# Altium footprint library adafruit.PCBLIB: 643 footprints (part 9 of 41)
Each footprint in its own frame and in the unit in brackets; x right, y up, seen from the top. Pads: shape width x height; smd on the part's side, far side on the other; paste and mask are expansions set on the pad; w line width, h text height; cw(c..) or ccw(c..) is an arc to the next point about the centre after c.
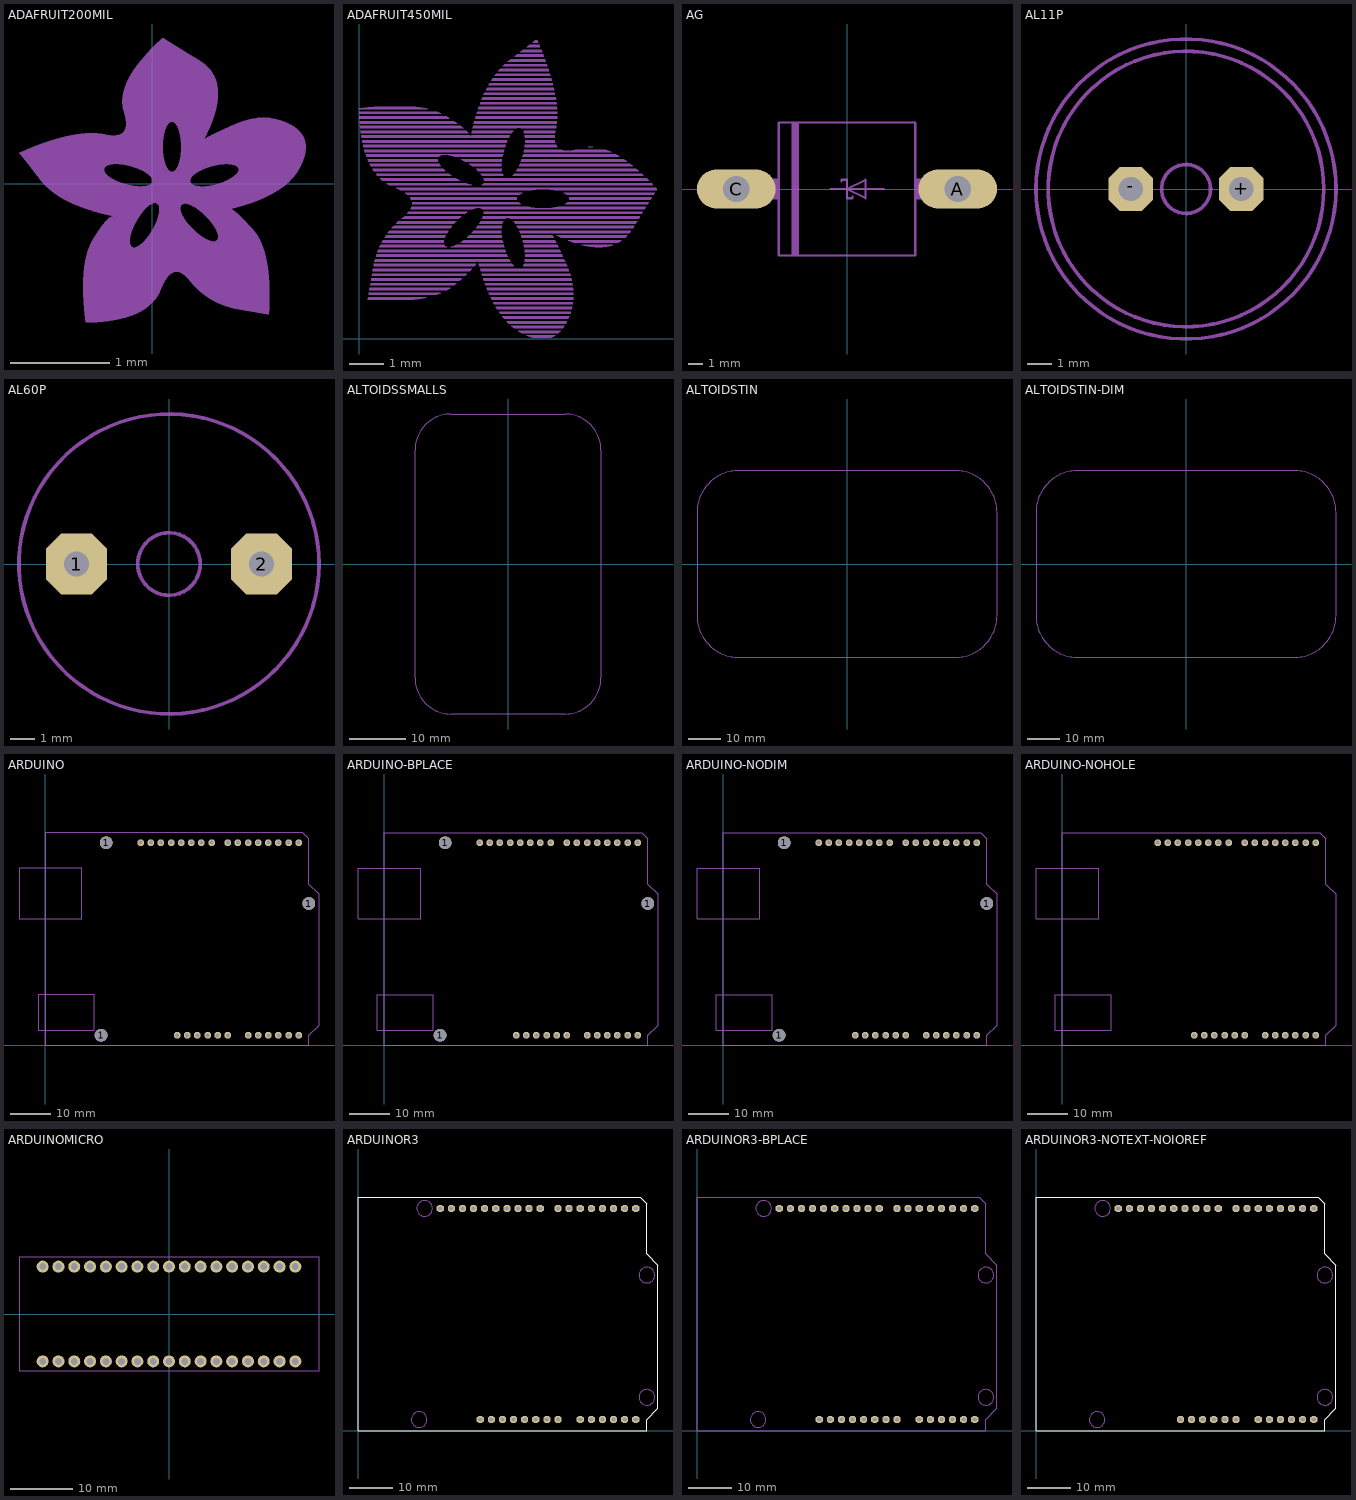
[diagram p8: the footprints below, top view; thin cyan lines are the x and y axes]

## ADAFRUIT200MIL [mil]
Mechanical 2:
  drawing of 2202 lines, arcs and shapes, not listed

## ADAFRUIT450MIL [mil]
Mechanical 2:
  drawing of 2202 lines, arcs and shapes, not listed

## AG [mil]
pads (2):
  oval 213x106.5 hole 71: A(300,0) C(-300,0)
Mechanical 2:
  rectangle: -150,-180 -130,180
  rectangle: 185,-28 221,28
  rectangle: -221,-28 -185,28
  lines w6: -45,0 0,0 ; -15,20 -15,25 0,25 0,0 ; 15,-20 15,-25 0,-25 0,0 ; 100,0 0,0 ; 0,0 50,25 50,-25 0,0 ; -185,-180 -185,180 185,180 185,-180 -185,-180
Mechanical 18:
  lines w58: -300,0 -230,0 ; 230,0 300,0

## AL11P [mil]
pads (2):
  oct 72.62x72.62 hole 40: +(90,0) -(-90,0)
Mechanical 2:
  circle w6: c0,0 r225
  circle w6: c0,0 r245
  circle w6: c0,0 r40

## AL60P [mil]
pads (2):
  oct 96.82x96.82 hole 40: 1(-148,0) 2(148,0)
Mechanical 2:
  circle w6: c0,0 r240
  circle w6: c0,0 r50

## ALTOIDSSMALLS [mil]
Mechanical 2:
  lines w0: -650,-800 ccw(c-400,-800) -400,-1050 400,-1050 ccw(c400,-800) 650,-800 650,800 ccw(c400,800) 400,1050 -400,1050 ccw(c-400,800) -650,800 -650,-800

## ALTOIDSTIN [mil]
Mechanical 2:
  lines w5: -1800,-620 -1800,620 cw(c-1300,620) -1300,1120 1300,1120 cw(c1300,620) 1800,620 1800,-620 cw(c1300,-620) 1300,-1120 -1300,-1120 cw(c-1300,-620) -1800,-620

## ALTOIDSTIN-DIM [mil]
Mechanical 1:
  lines w5: -1800,-620 -1800,620 cw(c-1300,620) -1300,1120 1300,1120 cw(c1300,620) 1800,620 1800,-620 cw(c1300,-620) 1300,-1120 -1300,-1120 cw(c-1300,-620) -1800,-620

## ARDUINO [mm]
pads (31):
  round 3.2 hole 3.2: 1(13.97,2.54) 1(15.24,50.8) 1(66.04,35.56)
  oct 1.623x1.623 hole 1: 3V(35.56,2.54) 5V(38.1,2.54) A0(50.8,2.54) A1(53.34,2.54) A2(55.88,2.54) A3(58.42,2.54) A4(60.96,2.54) A5(63.5,2.54) AREF(23.876,50.8) D0(63.5,50.8) D1(60.96,50.8) D2(58.42,50.8) D3(55.88,50.8) D4(53.34,50.8) D5(50.8,50.8) D6(48.26,50.8) D7(45.72,50.8) D8(41.656,50.8) D9(39.116,50.8) D10(36.576,50.8) D11(34.036,50.8) D12(31.496,50.8) D13(28.956,50.8) GND(26.416,50.8) GND1(43.18,2.54) GND2(40.64,2.54) RESET(33.02,2.54) VIN(45.72,2.54)
Mechanical 1:
  lines w0: 0,0 66.04,0 66.04,2.54 68.58,5.08 68.58,37.846 66.04,40.386 66.04,51.816 64.516,53.34 0,53.34 0,0
Mechanical 19:
  lines w0: -6.604,31.75 -6.604,44.45 9.144,44.45 9.144,31.75 -6.604,31.75 ; -1.778,3.81 12.192,3.81 12.192,12.7 -1.778,12.7 -1.778,3.81

## ARDUINO-BPLACE [mm]
pads (31):
  round 3.2 hole 3.2: 1(13.97,2.54) 1(15.24,50.8) 1(66.04,35.56)
  oct 1.623x1.623 hole 1: 3V(35.56,2.54) 5V(38.1,2.54) A0(50.8,2.54) A1(53.34,2.54) A2(55.88,2.54) A3(58.42,2.54) A4(60.96,2.54) A5(63.5,2.54) AREF(23.876,50.8) D0(63.5,50.8) D1(60.96,50.8) D2(58.42,50.8) D3(55.88,50.8) D4(53.34,50.8) D5(50.8,50.8) D6(48.26,50.8) D7(45.72,50.8) D8(41.656,50.8) D9(39.116,50.8) D10(36.576,50.8) D11(34.036,50.8) D12(31.496,50.8) D13(28.956,50.8) GND(26.416,50.8) GND1(43.18,2.54) GND2(40.64,2.54) RESET(33.02,2.54) VIN(45.72,2.54)
Mechanical 3:
  lines w0: -6.604,31.75 9.144,31.75 9.144,44.45 -6.604,44.45 -6.604,31.75 ; -1.778,3.81 -1.778,12.7 12.192,12.7 12.192,3.81 -1.778,3.81 ; 0,0 0,53.34 64.516,53.34 66.04,51.816 66.04,40.386 68.58,37.846 68.58,5.08 66.04,2.54 66.04,0 0,0

## ARDUINO-NODIM [mm]
pads (31):
  round 3.2 hole 3.2: 1(13.97,2.54) 1(15.24,50.8) 1(66.04,35.56)
  oct 1.623x1.623 hole 1: 3V(35.56,2.54) 5V(38.1,2.54) A0(50.8,2.54) A1(53.34,2.54) A2(55.88,2.54) A3(58.42,2.54) A4(60.96,2.54) A5(63.5,2.54) AREF(23.876,50.8) D0(63.5,50.8) D1(60.96,50.8) D2(58.42,50.8) D3(55.88,50.8) D4(53.34,50.8) D5(50.8,50.8) D6(48.26,50.8) D7(45.72,50.8) D8(41.656,50.8) D9(39.116,50.8) D10(36.576,50.8) D11(34.036,50.8) D12(31.496,50.8) D13(28.956,50.8) GND(26.416,50.8) GND1(43.18,2.54) GND2(40.64,2.54) RESET(33.02,2.54) VIN(45.72,2.54)
Mechanical 19:
  lines w0: -6.604,31.75 9.144,31.75 9.144,44.45 -6.604,44.45 -6.604,31.75 ; -1.778,3.81 -1.778,12.7 12.192,12.7 12.192,3.81 -1.778,3.81 ; 0,0 0,53.34 64.516,53.34 66.04,51.816 66.04,40.386 68.58,37.846 68.58,5.08 66.04,2.54 66.04,0 0,0

## ARDUINO-NOHOLE [mm]
pads (28):
  oct 1.623x1.623 hole 1: 3V(35.56,2.54) 5V(38.1,2.54) A0(50.8,2.54) A1(53.34,2.54) A2(55.88,2.54) A3(58.42,2.54) A4(60.96,2.54) A5(63.5,2.54) AREF(23.876,50.8) D0(63.5,50.8) D1(60.96,50.8) D2(58.42,50.8) D3(55.88,50.8) D4(53.34,50.8) D5(50.8,50.8) D6(48.26,50.8) D7(45.72,50.8) D8(41.656,50.8) D9(39.116,50.8) D10(36.576,50.8) D11(34.036,50.8) D12(31.496,50.8) D13(28.956,50.8) GND(26.416,50.8) GND1(43.18,2.54) GND2(40.64,2.54) RESET(33.02,2.54) VIN(45.72,2.54)
Mechanical 3:
  lines w0: -6.604,31.75 9.144,31.75 9.144,44.45 -6.604,44.45 -6.604,31.75 ; -1.778,3.81 -1.778,12.7 12.192,12.7 12.192,3.81 -1.778,3.81 ; 0,0 0,53.34 64.516,53.34 66.04,51.816 66.04,40.386 68.58,37.846 68.58,5.08 66.04,2.54 66.04,0 0,0

## ARDUINOMICRO [mil]
pads (34):
  round 76 hole 43.31: P$1(-800,300) P$2(-700,300) P$3(-600,300) P$4(-500,300) P$5(-400,300) P$6(-300,300) P$7(-200,300) P$8(-100,300) P$9(0,300) P$10(100,300) P$11(200,300) P$12(500,-300) P$13(400,-300) P$14(500,300) P$15(600,300) P$16(700,300) P$17(800,300) P$18(800,-300) P$19(700,-300) P$20(600,-300) P$21(300,300) P$22(400,300) P$23(300,-300) P$24(200,-300) P$25(100,-300) P$26(0,-300) P$27(-100,-300) P$28(-200,-300) P$29(-300,-300) P$30(-400,-300) P$31(-500,-300) P$32(-600,-300) P$33(-700,-300) P$34(-800,-300)
Mechanical 2:
  lines w5: -950,-360 950,-360 950,360 -950,360 -950,-360

## ARDUINOR3 [mm]
pads (32):
  oct 1.623x1.623 hole 1: 3V(35.56,2.54) 5V(38.1,2.54) A0(50.8,2.54) A1(53.34,2.54) A2(55.88,2.54) A3(58.42,2.54) A4(60.96,2.54) A5(63.5,2.54) AREF(23.876,50.8) D0(63.5,50.8) D1(60.96,50.8) D2(58.42,50.8) D3(55.88,50.8) D4(53.34,50.8) D5(50.8,50.8) D6(48.26,50.8) D7(45.72,50.8) D8(41.656,50.8) D9(39.116,50.8) D10(36.576,50.8) D11(34.036,50.8) D12(31.496,50.8) D13(28.956,50.8) GND(26.416,50.8) GND1(43.18,2.54) GND2(40.64,2.54) IOREF(30.48,2.54) RESERVED(27.94,2.54) RESET(33.02,2.54) SCL(18.796,50.8) SDA(21.336,50.8) VIN(45.72,2.54)
Top Overlay:
  lines w0: 0,0 0,53.34 64.516,53.34 66.04,51.816 66.04,40.386 68.58,37.846 68.58,5.08 66.04,2.54 66.04,0 0,0
Mechanical 18:
  circle w0.127: c66.04,7.62 r1.796
  circle w0.127: c66.04,35.56 r1.796
  circle w0.127: c13.97,2.54 r1.796
  circle w0.127: c15.24,50.8 r1.796

## ARDUINOR3-BPLACE [mm]
pads (32):
  oct 1.623x1.623 hole 1: 3V(35.56,2.54) 5V(38.1,2.54) A0(50.8,2.54) A1(53.34,2.54) A2(55.88,2.54) A3(58.42,2.54) A4(60.96,2.54) A5(63.5,2.54) AREF(23.876,50.8) D0(63.5,50.8) D1(60.96,50.8) D2(58.42,50.8) D3(55.88,50.8) D4(53.34,50.8) D5(50.8,50.8) D6(48.26,50.8) D7(45.72,50.8) D8(41.656,50.8) D9(39.116,50.8) D10(36.576,50.8) D11(34.036,50.8) D12(31.496,50.8) D13(28.956,50.8) GND(26.416,50.8) GND1(43.18,2.54) GND2(40.64,2.54) IOREF(30.48,2.54) RESERVED(27.94,2.54) RESET(33.02,2.54) SCL(18.796,50.8) SDA(21.336,50.8) VIN(45.72,2.54)
Mechanical 3:
  lines w0: 0,0 0,53.34 64.516,53.34 66.04,51.816 66.04,40.386 68.58,37.846 68.58,5.08 66.04,2.54 66.04,0 0,0
Mechanical 18:
  circle w0.127: c66.04,7.62 r1.796
  circle w0.127: c66.04,35.56 r1.796
  circle w0.127: c13.97,2.54 r1.796
  circle w0.127: c15.24,50.8 r1.796

## ARDUINOR3-NOTEXT-NOIOREF [mm]
pads (30):
  oct 1.623x1.623 hole 1: 3V(35.56,2.54) 5V(38.1,2.54) A0(50.8,2.54) A1(53.34,2.54) A2(55.88,2.54) A3(58.42,2.54) A4(60.96,2.54) A5(63.5,2.54) AREF(23.876,50.8) D0(63.5,50.8) D1(60.96,50.8) D2(58.42,50.8) D3(55.88,50.8) D4(53.34,50.8) D5(50.8,50.8) D6(48.26,50.8) D7(45.72,50.8) D8(41.656,50.8) D9(39.116,50.8) D10(36.576,50.8) D11(34.036,50.8) D12(31.496,50.8) D13(28.956,50.8) GND(26.416,50.8) GND1(43.18,2.54) GND2(40.64,2.54) RESET(33.02,2.54) SCL(18.796,50.8) SDA(21.336,50.8) VIN(45.72,2.54)
Top Overlay:
  lines w0: 0,0 0,53.34 64.516,53.34 66.04,51.816 66.04,40.386 68.58,37.846 68.58,5.08 66.04,2.54 66.04,0 0,0
Mechanical 18:
  circle w0.127: c66.04,7.62 r1.796
  circle w0.127: c66.04,35.56 r1.796
  circle w0.127: c13.97,2.54 r1.796
  circle w0.127: c15.24,50.8 r1.796